# Altium footprint library AltiumLibrary.PcbLib: 85 footprints (part 1 of 6)
Each footprint in its own frame and in the unit in brackets; x right, y up, seen from the top. Pads: shape width x height; smd on the part's side, far side on the other; paste and mask are expansions set on the pad; w line width, h text height; cw(c..) or ccw(c..) is an arc to the next point about the centre after c.
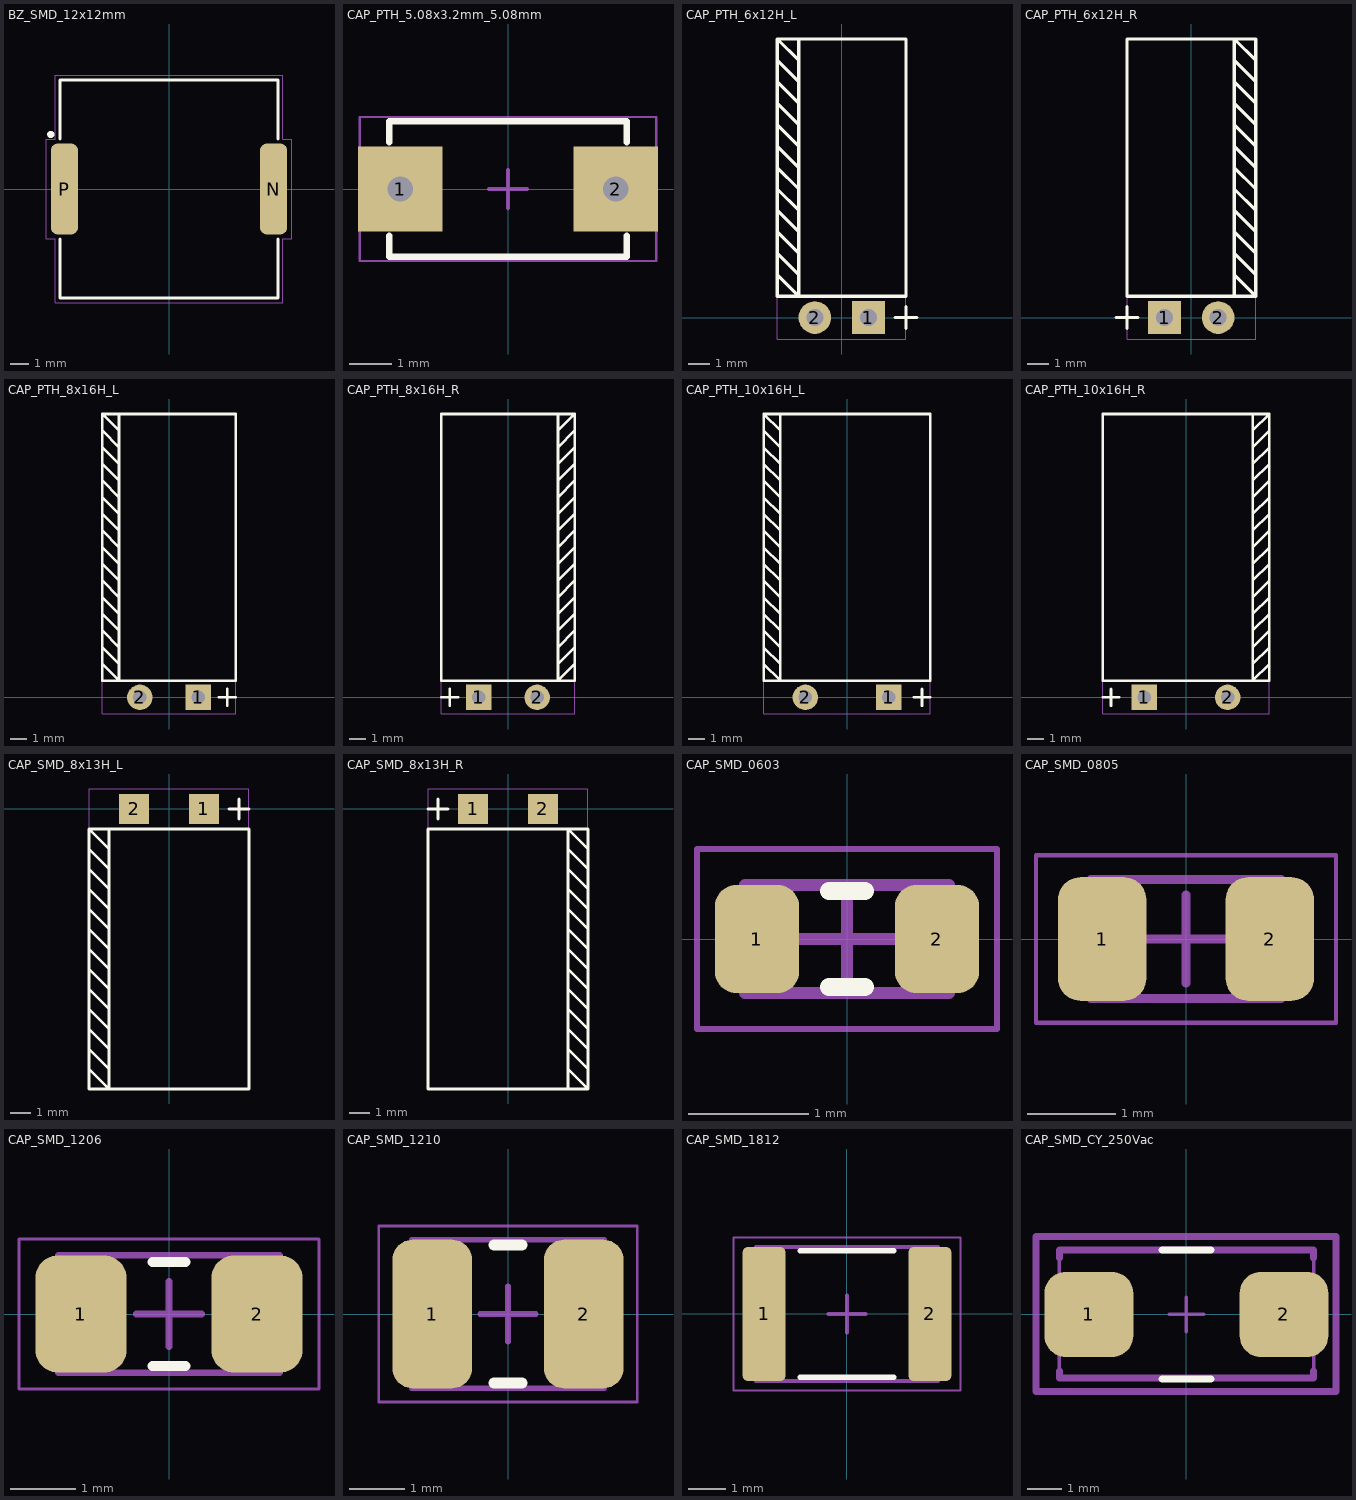
[diagram p0: the footprints below, top view; thin cyan lines are the x and y axes]

## BZ_SMD_12x12mm [mm] "Buzzer SMD 12x12mm"
height 3.3
pads (2):
  rrect50% 1.5x5 smd: N(5.75,0) P(-5.75,0)
Top Overlay:
  circle w0.2: c-6.5,3 r0.1
  lines w0.152: -6,-2.75 -6,-6 6,-6 6,-2.75 ; -6,2.75 -6,6 6,6 6,2.75
Top Courtyard:
  lines w0.05: -6.75,-2.75 -6.25,-2.75 -6.25,-6.25 6.25,-6.25 6.25,-2.75 6.75,-2.75 6.75,2.75 6.25,2.75 6.25,6.25 -6.25,6.25 -6.25,2.75 -6.75,2.75 -6.75,-2.75
3D body "CPT-12123-81-SMT-TR.STEP": height 3.16, standoff 0.01, extent -6.25,-6 6.25,6

## CAP_PTH_5.08x3.2mm_5.08mm [mm] "PTH radial capacitor, 2-Leads, Body 5.08x3.2mm, 5.08 lead spacing"
height 0.9
pads (2):
  rect 2x2 hole 0.6 paste-2539.97: 1(-2.54,0) 2(2.54,0)
Top Overlay:
  lines w0.152: -2.8,-1.1 -2.8,-1.6 2.8,-1.6 2.8,-1.1 ; -2.8,1.1 -2.8,1.6 2.8,1.6 2.8,1.1
Top Courtyard:
  lines w0.05: -3.5,-1.7 3.5,-1.7 3.5,1.7 -3.5,1.7 -3.5,-1.7
  lines w0.1: -0.45,0 0.45,0 ; 0,-0.45 0,0.45
3D body "cap.step": height 5.86, standoff -3.5, extent -2.794,-1.587 2.794,1.587

## CAP_PTH_6x12H_L [mm] "Electrolytic Capacitor 6mm Dia x 12mm - Radial Thru Hole - Horizontal - Negative left side"
height 6
pads (2):
  rect 1.524x1.524 hole 0.8: 1(1.25,0)
  round 1.524 hole 0.8: 2(-1.25,0)
Top Overlay:
  lines w0.152: -3,2 -2,1 -2,13 ; -3,3 -2,2 ; -3,4 -2,3 ; -3,5 -2,4 ; -3,6 -2,5 ; -3,7 -2,6 ; -3,8 -2,7 ; -3,9 -2,8 ; -3,10 -2,9 ; -3,11 -2,10 ; -3,12 -2,11 ; -2,12 -3,13 ; 2.5,0 3.5,0 ; 3,-0.5 3,0.5 ; -3,13 3,13 3,1 -3,1 -3,13
Top Courtyard:
  lines w0.05: 2.857,13 -3,13 -3,-1 3,-1 3,13
3D body "C62.step": height 6.02, standoff -0.99, extent -2.997,-0.299 2.997,13

## CAP_PTH_6x12H_R [mm] "Electrolytic Capacitor 6mm Dia x 12mm - Radial Thru Hole - Horizontal - Negative right side"
height 6
pads (2):
  rect 1.524x1.524 hole 0.8: 1(-1.25,0)
  round 1.524 hole 0.8: 2(1.25,0)
Top Overlay:
  lines w0.152: -3.5,0 -2.5,0 ; -3,-0.5 -3,0.5 ; 2,1 2,13 3,12 ; 2,2 3,1 ; 2,3 3,2 ; 2,4 3,3 ; 2,5 3,4 ; 2,6 3,5 ; 2,7 3,6 ; 2,8 3,7 ; 2,9 3,8 ; 2,10 3,9 ; 2,11 3,10 ; 2,12 3,11 ; 3,1 -3,1 -3,13 3,13 3,1
Top Courtyard:
  lines w0.05: 2.857,13 -3,13 -3,-1 3,-1 3,13
3D body "C63.step": height 6.01, standoff -0.99, extent -2.975,-0.299 3.018,13

## CAP_PTH_8x16H_L [mm] "Electrolytic Capacitor 8mm Dia x 16mm - Radial Thru Hole - Horizontal - Negative left side"
height 10
pads (2):
  rect 1.524x1.524 hole 0.8: 1(1.75,0)
  round 1.524 hole 0.8: 2(-1.75,0)
Top Overlay:
  lines w0.152: -4,2 -3,1 -3,17 ; -4,3 -3,2 ; -4,4 -3,3 ; -4,5 -3,4 ; -4,6 -3,5 ; -4,7 -3,6 ; -4,8 -3,7 ; -4,9 -3,8 ; -4,10 -3,9 ; -4,11 -3,10 ; -4,12 -3,11 ; -4,13 -3,12 ; -4,14 -3,13 ; -4,15 -3,14 ; -4,16 -3,15 ; -3,16 -4,17 ; 3,0 4,0 ; 3.5,-0.5 3.5,0.5 ; -4,17 4,17 4,1 -4,1 -4,17
Top Courtyard:
  lines w0.05: -4,-1 4,-1 4,17 -4,17 -4,-1
3D body "ECAP_8x16_2.step": height 8, standoff -3.5, extent -4.001,-0.299 4,16.9

## CAP_PTH_8x16H_R [mm] "Electrolytic Capacitor 8mm Dia x 16mm - Radial Thru Hole - Horizontal - Negative right side"
height 8
pads (2):
  rect 1.524x1.524 hole 0.8: 1(-1.75,0)
  round 1.524 hole 0.8: 2(1.75,0)
Top Overlay:
  lines w0.152: -4,0 -3,0 ; -3.5,-0.5 -3.5,0.5 ; 3,2 4,3 ; 3,3 4,4 ; 3,4 4,5 ; 3,5 4,6 ; 3,6 4,7 ; 3,7 4,8 ; 3,8 4,9 ; 3,9 4,10 ; 3,10 4,11 ; 3,11 4,12 ; 3,12 4,13 ; 3,13 4,14 ; 3,14 4,15 ; 3,15 4,16 ; 3,16 4,17 ; 3,17 3,1 4,2 ; 4,17 4,1 -4,1 -4,17 4,17
Top Courtyard:
  lines w0.05: -4,-1 -4,17 4,17 4,-1 -4,-1
3D body "ECAP_8x16.step": height 8, standoff -3.5, extent -4,-0.299 4.001,16.9

## CAP_PTH_10x16H_L [mm] "Electrolytic Capacitor 10mm Dia x 16mm - Radial Thru Hole - Horizontal - Negative left side"
height 10
pads (2):
  rect 1.524x1.524 hole 0.8: 1(2.5,0)
  round 1.524 hole 0.8: 2(-2.5,0)
Top Overlay:
  lines w0.152: -5,2 -4,1 -4,17 ; -5,3 -4,2 ; -5,4 -4,3 ; -5,5 -4,4 ; -5,6 -4,5 ; -5,7 -4,6 ; -5,8 -4,7 ; -5,9 -4,8 ; -5,10 -4,9 ; -5,11 -4,10 ; -5,12 -4,11 ; -5,13 -4,12 ; -5,14 -4,13 ; -5,15 -4,14 ; -5,16 -4,15 ; -4,16 -5,17 ; 4,0 5,0 ; 4.5,-0.5 4.5,0.5 ; -5,17 5,17 5,1 -5,1 -5,17
Top Courtyard:
  lines w0.05: -5,-1 5,-1 5,17 -5,17 -5,-1
3D body "CAP_PTH_10x16H_2.step": height 9.99, standoff -3.5, extent -5,-0.299 5,17

## CAP_PTH_10x16H_R [mm] "Electrolytic Capacitor 10mm Dia x 16mm - Radial Thru Hole - Horizontal - Negative right side"
height 10
pads (2):
  rect 1.524x1.524 hole 0.8: 1(-2.5,0)
  round 1.524 hole 0.8: 2(2.5,0)
Top Overlay:
  lines w0.152: -5,0 -4,0 ; -4.5,-0.5 -4.5,0.5 ; 4,2 5,3 ; 4,3 5,4 ; 4,4 5,5 ; 4,5 5,6 ; 4,6 5,7 ; 4,7 5,8 ; 4,8 5,9 ; 4,9 5,10 ; 4,10 5,11 ; 4,11 5,12 ; 4,12 5,13 ; 4,13 5,14 ; 4,14 5,15 ; 4,15 5,16 ; 4,16 5,17 ; 4,17 4,1 5,2 ; 5,17 -5,17 -5,1 5,1 5,17
Top Courtyard:
  lines w0.05: -5,-1 5,-1 5,17 -5,17 -5,-1
3D body "CAP_PTH_10x16H_1.step": height 10, standoff -3.5, extent -5,-0.299 5,17

## CAP_SMD_8x13H_L [mil] "Electrolytic Capacitor 8mm Dia x 13mm - Radial SMD soldered - Horizontal - Negative left side"
height 393.7
pads (2):
  rect 60x60 smd: 1(68.9,0) 2(-68.9,0)
Top Overlay:
  lines w5.98: -157.48,-511.81 -118.11,-551.18 -118.11,-39.37 ; -157.48,-472.44 -118.11,-511.81 ; -157.48,-433.07 -118.11,-472.44 ; -157.48,-393.7 -118.11,-433.07 ; -157.48,-354.33 -118.11,-393.7 ; -157.48,-314.96 -118.11,-354.33 ; -157.48,-275.59 -118.11,-314.96 ; -157.48,-236.22 -118.11,-275.59 ; -157.48,-196.85 -118.11,-236.22 ; -157.48,-157.48 -118.11,-196.85 ; -157.48,-118.11 -118.11,-157.48 ; -157.48,-78.74 -118.11,-118.11 ; -118.11,-78.74 -157.48,-39.37 ; 118.11,0 157.48,0 ; 137.8,-19.68 137.8,19.68 ; -157.48,-39.37 -157.48,-551.18 157.48,-551.18 157.48,-39.37 -157.48,-39.37
Top Courtyard:
  lines w1.97: -157.48,-551.18 157.48,-551.18 157.48,39.37 -157.48,39.37 -157.48,-551.18
3D body "C6.step": height 315.46, standoff 0.5, extent -157.48,-551.18 157.48,7.83

## CAP_SMD_8x13H_R [mil] "Electrolytic Capacitor 8mm Dia x 13mm - Radial SMD soldered - Horizontal - Negative right side"
height 393.7
pads (2):
  rect 60x60 smd: 1(-68.9,0) 2(68.9,0)
Top Overlay:
  lines w5.98: -157.48,0 -118.11,0 ; -137.8,-19.68 -137.8,19.68 ; 118.11,-551.18 118.11,-39.37 157.48,-78.74 ; 118.11,-511.81 157.48,-551.18 ; 118.11,-472.44 157.48,-511.81 ; 118.11,-433.07 157.48,-472.44 ; 118.11,-393.7 157.48,-433.07 ; 118.11,-354.33 157.48,-393.7 ; 118.11,-314.96 157.48,-354.33 ; 118.11,-275.59 157.48,-314.96 ; 118.11,-236.22 157.48,-275.59 ; 118.11,-196.85 157.48,-236.22 ; 118.11,-157.48 157.48,-196.85 ; 118.11,-118.11 157.48,-157.48 ; 118.11,-78.74 157.48,-118.11 ; 157.48,-551.18 -157.48,-551.18 -157.48,-39.37 157.48,-39.37 157.48,-551.18
Top Courtyard:
  lines w1.97: -157.48,-551.18 157.48,-551.18 157.48,39.37 -157.48,39.37 -157.48,-551.18
3D body "C6.step": height 315.39, standoff 0.5, extent -157.48,-551.18 157.48,7.83

## CAP_SMD_0603 [mm] "0603 Chip Capacitor, 2-Leads, Body 1,60x0,80mm, IPC Medium Density"
height 0.9
pads (2):
  rrect50% 0.7x0.9 smd paste-2539.97: 1(-0.75,0) 2(0.75,0)
Top Overlay:
  lines w0.152: -0.15,-0.4 0.15,-0.4 ; -0.15,0.4 0.15,0.4
Top Paste:
  region: -0.938,-0.475 -0.956,-0.475 -0.992,-0.468 -1.026,-0.454 -1.057,-0.433 -1.083,-0.407 -1.104,-0.376 -1.118,-0.342 -1.125,-0.306 -1.125,-0.287 -1.125,-0.288 -1.125,0.288 -1.125,0.306 -1.118,0.342 -1.104,0.376 -1.083,0.407 -1.057,0.433 -1.026,0.454 -0.992,0.468 -0.956,0.475 -0.938,0.475 -0.563,0.475 -0.544,0.475 -0.508,0.468 -0.474,0.454 -0.443,0.433 -0.417,0.407 -0.396,0.376 -0.382,0.342 -0.375,0.306 -0.375,0.288 -0.375,-0.288 -0.375,-0.306 -0.382,-0.342 -0.396,-0.376 -0.417,-0.407 -0.443,-0.433 -0.474,-0.454 -0.508,-0.468 -0.544,-0.475 -0.563,-0.475
  region: 0.375,-0.287 0.375,-0.306 0.382,-0.342 0.396,-0.376 0.417,-0.407 0.443,-0.433 0.474,-0.454 0.508,-0.468 0.544,-0.475 0.562,-0.475 0.937,-0.475 0.956,-0.475 0.992,-0.468 1.026,-0.454 1.057,-0.433 1.083,-0.407 1.104,-0.376 1.118,-0.342 1.125,-0.306 1.125,-0.288 1.125,0.288 1.125,0.306 1.118,0.342 1.104,0.376 1.083,0.407 1.057,0.433 1.026,0.454 0.992,0.468 0.956,0.475 0.937,0.475 0.562,0.475 0.544,0.475 0.508,0.468 0.474,0.454 0.443,0.433 0.417,0.407 0.396,0.376 0.382,0.342 0.375,0.306 0.375,0.288
Top 3D Body:
  lines w0.1: -0.85,-0.45 -0.85,0.45 0.85,0.45 0.85,-0.45 -0.85,-0.45
Top Courtyard:
  lines w0.05: -1.25,-0.75 -1.25,0.75 1.25,0.75 1.25,-0.75 -1.25,-0.75
  lines w0.1: -0.45,0 0.45,0 ; 0,-0.45 0,0.45
3D body: height 0.9, standoff 0, extent -0.85,-0.45 -0.5,0.45
3D body: height 0.9, standoff 0, extent 0.5,-0.45 0.85,0.45
3D body: height 0.9, standoff 0, extent -0.5,-0.45 0.5,0.45

## CAP_SMD_0805 [mm] "0805 Chip Capacitor, 2-Leads, Body 2x1,25mm, IPC Medium Density"
height 0.9
pads (2):
  rrect50% 1x1.4 smd: 1(-0.95,0) 2(0.95,0)
Top Assembly (Mech13):
  lines w0.1: -1.075,-0.675 -1.075,0.675 1.075,0.675 1.075,-0.675 -1.075,-0.675
Top Courtyard:
  lines w0.05: -1.7,-0.95 -1.7,0.95 1.7,0.95 1.7,-0.95 -1.7,-0.95
  lines w0.1: -0.5,0 0.5,0 ; 0,-0.5 0,0.5
3D body "Chip2PinSM127P600-8N.step": height 0.9, standoff 0, extent -1.075,-0.675 1.075,0.675

## CAP_SMD_1206 [mm] "1206 Chip Capacitor, 2-Leads, Body 3,20x1,60mm, IPC Medium Density"
height 1.8
pads (2):
  rrect50% 1.4x1.8 smd: 1(-1.35,0) 2(1.35,0)
Top Overlay:
  lines w0.152: -0.25,-0.8 0.25,-0.8 ; -0.25,0.8 0.25,0.8
Top Assembly (Mech13):
  lines w0.1: -1.7,-0.9 1.7,-0.9 1.7,0.9 -1.7,0.9 -1.7,-0.9
Top Courtyard:
  lines w0.05: -2.3,-1.15 2.3,-1.15 2.3,1.15 -2.3,1.15 -2.3,-1.15
  lines w0.1: -0.5,0 0.5,0 ; 0,-0.5 0,0.5
3D body "CAP_SMD_1206.step": height 1.8, standoff 0, extent -1.7,-0.9 1.7,0.9

## CAP_SMD_1210 [mm] "1210 Chip Capacitor, 2-Leads, Body 3,20x2,50mm, IPC Medium Density"
height 2.5
pads (2):
  rrect50% 1.45x2.7 smd: 1(-1.375,0) 2(1.375,0)
Top Overlay:
  lines w0.2: -0.25,-1.25 0.25,-1.25 ; -0.25,1.25 0.25,1.25
Top Assembly (Mech13):
  lines w0.1: -1.75,-1.35 -1.75,1.35 1.75,1.35 1.75,-1.35 -1.75,-1.35
Top Courtyard:
  lines w0.05: -2.35,-1.6 -2.35,1.6 2.35,1.6 2.35,-1.6 -2.35,-1.6
  lines w0.1: -0.5,0 0.5,0 ; 0,-0.5 0,0.5
3D body "CAP_SMD_1210.step": height 2.5, standoff 0, extent -1.75,-1.35 1.75,1.35

## CAP_SMD_1812 [mm] "1812 Chip Capacitor, 2-Leads, Body 4,5x3,2mm, IPC Medium Density"
height 3.2
pads (2):
  rrect25% 1.15x3.6 smd: 1(-2.225,0) 2(2.225,0)
Top Overlay:
  lines w0.152: -1.25,-1.7 1.25,-1.7 ; -1.25,1.7 1.25,1.7
Top Assembly (Mech13):
  lines w0.1: -2.45,-1.8 -2.45,1.8 2.45,1.8 2.45,-1.8 -2.45,-1.8
Top Courtyard:
  lines w0.05: -3.05,-2.05 -3.05,2.05 3.05,2.05 3.05,-2.05 -3.05,-2.05
  lines w0.1: -0.5,0 0.5,0 ; 0,-0.5 0,0.5
3D body "Chip2PinSM127P600-8N.step": height 3.2, standoff 0, extent -2.45,-1.8 2.45,1.8

## CAP_SMD_CY_250Vac [mm] "Y safety capacitor non standard package 7.8x5.4x2.54mm"
height 2.54
pads (2):
  rrect50% 2.55x2.45 smd: 1(-2.8,0) 2(2.8,0)
Top Overlay:
  lines w0.2: -0.7,-1.854 0.7,-1.854 ; -0.7,1.854 0.7,1.854
Top Courtyard:
  lines w0.1: -3.65,-1.829 -3.65,1.625 ; -0.5,0 0.5,0 ; 0,-0.5 0,0.5 ; 3.65,-1.829 3.65,1.625
  lines w0.2: -3.65,-1.625 -3.65,-1.829 3.65,-1.829 3.65,-1.625 ; -3.65,1.625 -3.65,1.854 3.65,1.854 3.65,1.625 ; -4.318,-2.21 4.293,-2.21 4.293,2.235 -4.318,2.235 -4.318,-2.21
3D body "User Library-CAP_TANT_6032-28_y.STEP": height 2.8, standoff 0, extent -3.15,-1.75 3.15,1.75